# Altium schematic symbol library 1P5SMC400A.SchLib: 2 symbols
Pins are listed as number, name and electrical type; pins without a type are passive.

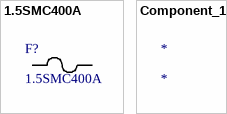
[diagram p0: symbols 1.5SMC400A to Component_1]

## 1.5SMC400A
designator F?
No Description Available; Mfr_Name: Littelfuse Inc; Type: DEV; Copyright: Copyright (C) 2023 Ultra Librarian. All rights reserved.; Manufacturer_Part_Number: 1.5SMC400A; RefDes: RefDes
footprint 1.5SMCSeries_LTF
pins: 1, 2

## Component_1
designator *